# Altium schematic symbol library Analog Devices Amplifiers and Linear Voltage References.SchLib: 547 symbols (part 17 of 20)
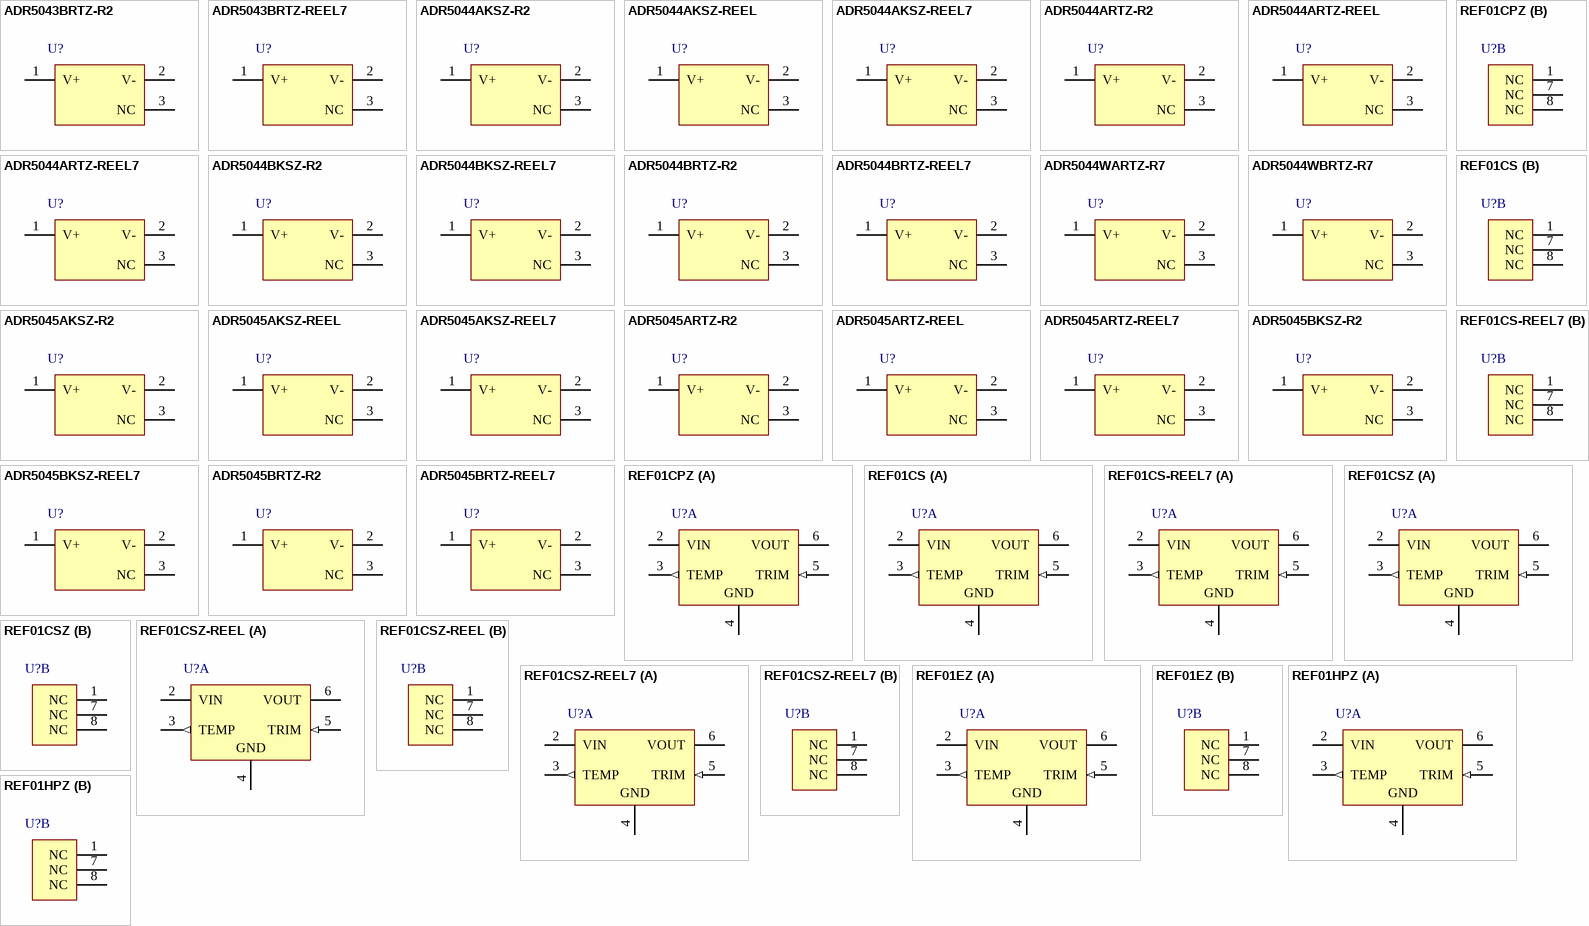
[diagram p36: symbols ADR5043BRTZ-R2 to REF01HPZ]

## ADR5045BKSZ-R2
designator U?
Precision Micropower Shunt Mode Voltage Reference, 5 V Output, Industrial, 3-pin SOT23 (KS-3), Reel; Manufacturer: Analog Devices; PartNumber: ADR5045BKSZ-R2; Ref Out TC (ppm/C): 10; Vout: 5V; DatasheetVersion: Rev. B; PackageVersion: 072809-A, 07/2009; PackageReference: KS-3; PackageDescription: 3-Pin Thin Shrink Small Outline Transistor Package, Body 2 x 1.25 mm, Pitch 0.65 mm; Supplier 1: Digi-Key; Supplier Part Number 1: ADR5045BKSZ-R2TR-ND; Supplier 2: Digi-Key; Supplier Part Number 2: ADR5045BKSZ-R2CT-ND; Supplier 3: Digi-Key; Supplier Part Number 3: ADR5045BKSZ-R2DKR-ND; Supplier 4: Newark; Supplier Part Number 4: 34M4914; Supplier 5: Mouser; Supplier Part Number 5: 584-ADR5045BKSZ-R2; Packing: Reel; Operating Temp Range: -40 to 125 degC; Mounting Technology: Surface Mount; ComponentLink1Description: Manufacturer URL; ComponentLink1URL: http://www.analog.com/en/index.html; ComponentLink2Description: Datasheet; ComponentLink2URL: http://www.analog.com/static/imported-files/data_sheets/ADR5040_5041_5043_5044_5045.pdf; ComponentLink3Description: Package Specification; ComponentLink3URL: http:/www.analog.com/static/imported-files/packages/PKG_PDF/SC70(KS)/KS_3.pdf; ComponentLink4Description: URL Link1; ComponentLink4URL: Product URL:http://www.analog.com/en/special-linear-functions/voltage-references/adr5045/products/product.html
footprint ADI-KS-3_N (SOT23, 3-Leads, Body 2x1.25mm, Pitch 0.65mm, IPC Medium Density)
footprint ADI-KS-3_L (SOT23, 3-Leads, Body 2x1.25mm, Pitch 0.65mm, IPC High Density)
footprint ADI-KS-3_M (SOT23, 3-Leads, Body 2x1.25mm, Pitch 0.65mm, IPC Low Density)
pins: 1 V+ (power), 2 V- (power), 3 NC

## ADR5045BKSZ-REEL7
designator U?
Precision Micropower Shunt Mode Voltage Reference, 5 V Output, Industrial, 3-pin SOT23 (KS-3), Reel; Manufacturer: Analog Devices; PartNumber: ADR5045BKSZ-REEL7; Ref Out TC (ppm/C): 10; Vout: 5V; DatasheetVersion: Rev. B; PackageVersion: 072809-A, 07/2009; PackageReference: KS-3; PackageDescription: 3-Pin Thin Shrink Small Outline Transistor Package, Body 2 x 1.25 mm, Pitch 0.65 mm; Supplier 1: Digi-Key; Supplier Part Number 1: ADR5045BKSZ-REEL7-ND; Supplier 2: Mouser; Supplier Part Number 2: 584-ADR5045BKSZ-R7; Packing: Reel; Operating Temp Range: -40 to 125 degC; Mounting Technology: Surface Mount; ComponentLink1Description: Manufacturer URL; ComponentLink1URL: http://www.analog.com/en/index.html; ComponentLink2Description: Datasheet; ComponentLink2URL: http://www.analog.com/static/imported-files/data_sheets/ADR5040_5041_5043_5044_5045.pdf; ComponentLink3Description: Package Specification; ComponentLink3URL: http:/www.analog.com/static/imported-files/packages/PKG_PDF/SC70(KS)/KS_3.pdf; ComponentLink4Description: URL Link1; ComponentLink4URL: Product URL:http://www.analog.com/en/special-linear-functions/voltage-references/adr5045/products/product.html
footprint ADI-KS-3_N (SOT23, 3-Leads, Body 2x1.25mm, Pitch 0.65mm, IPC Medium Density)
footprint ADI-KS-3_L (SOT23, 3-Leads, Body 2x1.25mm, Pitch 0.65mm, IPC High Density)
footprint ADI-KS-3_M (SOT23, 3-Leads, Body 2x1.25mm, Pitch 0.65mm, IPC Low Density)
pins: 1 V+ (power), 2 V- (power), 3 NC

## ADR5045BRTZ-R2
designator U?
Precision Micropower Shunt Mode Voltage Reference, 5 V Output, Industrial, 3-pin SOT23 (RT-3), Reel; Manufacturer: Analog Devices; PartNumber: ADR5045BRTZ-R2; Ref Out TC (ppm/C): 10; Vout: 5V; DatasheetVersion: Rev. B; PackageVersion: 011909-C, 02/2009; PackageReference: RT-3; PackageDescription: 3-Pin Small Outline Transistor Package, Body 2.9 x 1.3 mm, Pitch 0.96 mm; Supplier 1: Digi-Key; Supplier Part Number 1: ADR5045BRTZ-R2TR-ND; Supplier 2: Digi-Key; Supplier Part Number 2: ADR5045BRTZ-R2CT-ND; Supplier 3: Digi-Key; Supplier Part Number 3: ADR5045BRTZ-R2DKR-ND; Supplier 4: Mouser; Supplier Part Number 4: 584-ADR5045BRTZ-R2; Packing: Reel; Operating Temp Range: -40 to 125 degC; Mounting Technology: Surface Mount; Code_JEDEC: TO-236-AB; ComponentLink1Description: Manufacturer URL; ComponentLink1URL: http://www.analog.com/en/index.html; ComponentLink2Description: Datasheet; ComponentLink2URL: http://www.analog.com/static/imported-files/data_sheets/ADR5040_5041_5043_5044_5045.pdf; ComponentLink3Description: Package Specification; ComponentLink3URL: http:/www.analog.com/static/imported-files/packages/PKG_PDF/SOT-23-3 (RT)/RT_3.pdf; ComponentLink4Description: URL Link1; ComponentLink4URL: Product URL:http://www.analog.com/en/special-linear-functions/voltage-references/adr5045/products/product.html
footprint ADI-RT-3_N (SOT23, 3-Leads, Body 2.9x1.3mm, Pitch 0.96mm, IPC Medium Density)
footprint ADI-RT-3_L (SOT23, 3-Leads, Body 2.9x1.3mm, Pitch 0.96mm, IPC High Density)
footprint ADI-RT-3_M (SOT23, 3-Leads, Body 2.9x1.3mm, Pitch 0.96mm, IPC Low Density)
pins: 1 V+ (power), 2 V- (power), 3 NC

## ADR5045BRTZ-REEL7
designator U?
Precision Micropower Shunt Mode Voltage Reference, 5 V Output, Industrial, 3-pin SOT23 (RT-3), Reel; Manufacturer: Analog Devices; PartNumber: ADR5045BRTZ-REEL7; Ref Out TC (ppm/C): 10; Vout: 5V; DatasheetVersion: Rev. B; PackageVersion: 011909-C, 02/2009; PackageReference: RT-3; PackageDescription: 3-Pin Small Outline Transistor Package, Body 2.9 x 1.3 mm, Pitch 0.96 mm; Supplier 1: Digi-Key; Supplier Part Number 1: ADR5045BRTZ-REEL7-ND; Supplier 2: Mouser; Supplier Part Number 2: 584-ADR5045BRTZ-R7; Packing: Reel; Operating Temp Range: -40 to 125 degC; Mounting Technology: Surface Mount; Code_JEDEC: TO-236-AB; ComponentLink1Description: Manufacturer URL; ComponentLink1URL: http://www.analog.com/en/index.html; ComponentLink2Description: Datasheet; ComponentLink2URL: http://www.analog.com/static/imported-files/data_sheets/ADR5040_5041_5043_5044_5045.pdf; ComponentLink3Description: Package Specification; ComponentLink3URL: http:/www.analog.com/static/imported-files/packages/PKG_PDF/SOT-23-3 (RT)/RT_3.pdf; ComponentLink4Description: URL Link1; ComponentLink4URL: Product URL:http://www.analog.com/en/special-linear-functions/voltage-references/adr5045/products/product.html
footprint ADI-RT-3_N (SOT23, 3-Leads, Body 2.9x1.3mm, Pitch 0.96mm, IPC Medium Density)
footprint ADI-RT-3_L (SOT23, 3-Leads, Body 2.9x1.3mm, Pitch 0.96mm, IPC High Density)
footprint ADI-RT-3_M (SOT23, 3-Leads, Body 2.9x1.3mm, Pitch 0.96mm, IPC Low Density)
pins: 1 V+ (power), 2 V- (power), 3 NC

## REF01CPZ
designator U?
Precision Voltage Reference, 10 V Output, 12 to 36 V Supply, Commercial, 8-pin DIP (N-8), Tube; Manufacturer: Analog Devices; PartNumber: REF01CPZ; Max V Supply (V): 36; Min V Supply (V): 12; Ref Out TC (ppm/C): 20; Vout: 10V; DatasheetVersion: Rev. K; PackageVersion: 070606-A, 07/2006; PackageReference: N-8; PackageDescription: 8-Pin Plastic Dual In-Line Package, Row spacing 7.62 mm, Pitch 2.54 mm; Supplier 1: Digi-Key; Supplier Part Number 1: REF01CPZ-ND; Supplier 2: Farnell; Supplier Part Number 2: 9605134; Supplier 3: Newark; Supplier Part Number 3: 59K9004; Supplier 4: Mouser; Supplier Part Number 4: 584-REF01CPZ; Packing: Tube; Operating Temp Range: -40 to 85 degC; Mounting Technology: Through Hole; Code_JEDEC: MS-001; ComponentLink1Description: Manufacturer URL; ComponentLink1URL: http://www.analog.com/en/index.html; ComponentLink2Description: Datasheet; ComponentLink2URL: http://www.analog.com/static/imported-files/data_sheets/REF01_02_03.pdf; ComponentLink3Description: Package Specification; ComponentLink3URL: http:/www.analog.com/static/imported-files/packages/PKG_PDF/PDIP(N)/N_8.pdf; ComponentLink4Description: URL Link1; ComponentLink4URL: Product URL:http://www.analog.com/en/special-linear-functions/voltage-references/ref01/products/product.html
footprint ADI-N-8 (DIP, 8-Leads, Body 9.59x6.6mm, Pitch 2.54mm)
part A pins: 2 VIN (power), 3 TEMP (out), 4 GND (power), 5 TRIM (in), 6 VOUT (power)
part B pins: 1 NC, 7 NC, 8 NC

## REF01CS
designator U?
Precision Voltage Reference, 10 V Output, 12 to 36 V Supply, Commercial, 8-pin SOIC (R-8), Tube; Manufacturer: Analog Devices; PartNumber: REF01CS; Max V Supply (V): 36; Min V Supply (V): 12; Ref Out TC (ppm/C): 20; Vout: 10V; DatasheetVersion: Rev. K; PackageVersion: 060506-A, 06/2006; PackageReference: R-8; PackageDescription: 8-Pin Standard Small Outline Package, Body 4.9 x 3.9 mm, Pitch 1.27 mm; Supplier 1: Digi-Key; Supplier Part Number 1: REF01CS-ND; Packing: Tube; Operating Temp Range: -40 to 85 degC; Mounting Technology: Surface Mount; Code_JEDEC: MS-012-AA; ComponentLink1Description: Manufacturer URL; ComponentLink1URL: http://www.analog.com/en/index.html; ComponentLink2Description: Datasheet; ComponentLink2URL: http://www.analog.com/static/imported-files/data_sheets/REF01_02_03.pdf; ComponentLink3Description: Package Specification; ComponentLink3URL: http://www.analog.com/static/imported-files/packages/PKG_PDF/SOIC_Narrow%20(R)/R_8.pdf; ComponentLink4Description: URL Link1; ComponentLink4URL: Product URL:http://www.analog.com/en/special-linear-functions/voltage-references/ref01/products/product.html
footprint ADI-R-8_N (SOIC, 8-Leads, Body 4.9x3.9mm, Pitch 1.27mm, IPC Medium Density)
footprint ADI-R-8_L (SOIC, 8-Leads, Body 4.9x3.9mm, Pitch 1.27mm, IPC High Density)
footprint ADI-R-8_M (SOIC, 8-Leads, Body 4.9x3.9mm, Pitch 1.27mm, IPC Low Density)
part A pins: 2 VIN (power), 3 TEMP (out), 4 GND (power), 5 TRIM (in), 6 VOUT (power)
part B pins: 1 NC, 7 NC, 8 NC

## REF01CS-REEL7
designator U?
Precision Voltage Reference, 10 V Output, 12 to 36 V Supply, Commercial, 8-pin SOIC (R-8), Reel; Manufacturer: Analog Devices; PartNumber: REF01CS-REEL7; Max V Supply (V): 36; Min V Supply (V): 12; Ref Out TC (ppm/C): 20; Vout: 10V; DatasheetVersion: Rev. K; PackageVersion: 060506-A, 06/2006; PackageReference: R-8; PackageDescription: 8-Pin Standard Small Outline Package, Body 4.9 x 3.9 mm, Pitch 1.27 mm; Supplier 1: Digi-Key; Supplier Part Number 1: REF01CS-REEL7-ND; Supplier 2: Mouser; Supplier Part Number 2: N/A; Packing: Reel; Operating Temp Range: -40 to 85 degC; Mounting Technology: Surface Mount; Code_JEDEC: MS-012-AA; ComponentLink1Description: Manufacturer URL; ComponentLink1URL: http://www.analog.com/en/index.html; ComponentLink2Description: Datasheet; ComponentLink2URL: http://www.analog.com/static/imported-files/data_sheets/REF01_02_03.pdf; ComponentLink3Description: Package Specification; ComponentLink3URL: http://www.analog.com/static/imported-files/packages/PKG_PDF/SOIC_Narrow%20(R)/R_8.pdf; ComponentLink4Description: URL Link1; ComponentLink4URL: Product URL:http://www.analog.com/en/special-linear-functions/voltage-references/ref01/products/product.html
footprint ADI-R-8_N (SOIC, 8-Leads, Body 4.9x3.9mm, Pitch 1.27mm, IPC Medium Density)
footprint ADI-R-8_L (SOIC, 8-Leads, Body 4.9x3.9mm, Pitch 1.27mm, IPC High Density)
footprint ADI-R-8_M (SOIC, 8-Leads, Body 4.9x3.9mm, Pitch 1.27mm, IPC Low Density)
part A pins: 2 VIN (power), 3 TEMP (out), 4 GND (power), 5 TRIM (in), 6 VOUT (power)
part B pins: 1 NC, 7 NC, 8 NC

## REF01CSZ
designator U?
Precision Voltage Reference, 10 V Output, 12 to 36 V Supply, Commercial, 8-pin SOIC (R-8), Tube; Manufacturer: Analog Devices; PartNumber: REF01CSZ; Max V Supply (V): 36; Min V Supply (V): 12; Ref Out TC (ppm/C): 20; Vout: 10V; DatasheetVersion: Rev. K; PackageVersion: 060506-A, 06/2006; PackageReference: R-8; PackageDescription: 8-Pin Standard Small Outline Package, Body 4.9 x 3.9 mm, Pitch 1.27 mm; Supplier 1: Digi-Key; Supplier Part Number 1: REF01CSZ-ND; Supplier 2: Farnell; Supplier Part Number 2: 9605142; Supplier 3: Newark; Supplier Part Number 3: 59K9005; Supplier 4: Mouser; Supplier Part Number 4: 584-REF01CSZ; Packing: Tube; Operating Temp Range: -40 to 85 degC; Mounting Technology: Surface Mount; Code_JEDEC: MS-012-AA; ComponentLink1Description: Manufacturer URL; ComponentLink1URL: http://www.analog.com/en/index.html; ComponentLink2Description: Datasheet; ComponentLink2URL: http://www.analog.com/static/imported-files/data_sheets/REF01_02_03.pdf; ComponentLink3Description: Package Specification; ComponentLink3URL: http://www.analog.com/static/imported-files/packages/PKG_PDF/SOIC_Narrow%20(R)/R_8.pdf; ComponentLink4Description: URL Link1; ComponentLink4URL: Product URL:http://www.analog.com/en/special-linear-functions/voltage-references/ref01/products/product.html
footprint ADI-R-8_N (SOIC, 8-Leads, Body 4.9x3.9mm, Pitch 1.27mm, IPC Medium Density)
footprint ADI-R-8_L (SOIC, 8-Leads, Body 4.9x3.9mm, Pitch 1.27mm, IPC High Density)
footprint ADI-R-8_M (SOIC, 8-Leads, Body 4.9x3.9mm, Pitch 1.27mm, IPC Low Density)
part A pins: 2 VIN (power), 3 TEMP (out), 4 GND (power), 5 TRIM (in), 6 VOUT (power)
part B pins: 1 NC, 7 NC, 8 NC

## REF01CSZ-REEL
designator U?
Precision Voltage Reference, 10 V Output, 12 to 36 V Supply, Commercial, 8-pin SOIC (R-8), Reel; Manufacturer: Analog Devices; PartNumber: REF01CSZ-REEL; Max V Supply (V): 36; Min V Supply (V): 12; Ref Out TC (ppm/C): 20; Vout: 10V; DatasheetVersion: Rev. K; PackageVersion: 060506-A, 06/2006; PackageReference: R-8; PackageDescription: 8-Pin Standard Small Outline Package, Body 4.9 x 3.9 mm, Pitch 1.27 mm; Supplier 1: Digi-Key; Supplier Part Number 1: REF01CSZ-REEL-ND; Supplier 2: Newark; Supplier Part Number 2: 59K9006; Supplier 3: Mouser; Supplier Part Number 3: 584-REF01CSZ-R; Packing: Reel; Operating Temp Range: -40 to 85 degC; Mounting Technology: Surface Mount; Code_JEDEC: MS-012-AA; ComponentLink1Description: Manufacturer URL; ComponentLink1URL: http://www.analog.com/en/index.html; ComponentLink2Description: Datasheet; ComponentLink2URL: http://www.analog.com/static/imported-files/data_sheets/REF01_02_03.pdf; ComponentLink3Description: Package Specification; ComponentLink3URL: http://www.analog.com/static/imported-files/packages/PKG_PDF/SOIC_Narrow%20(R)/R_8.pdf; ComponentLink4Description: URL Link1; ComponentLink4URL: Product URL:http://www.analog.com/en/special-linear-functions/voltage-references/ref01/products/product.html
footprint ADI-R-8_N (SOIC, 8-Leads, Body 4.9x3.9mm, Pitch 1.27mm, IPC Medium Density)
footprint ADI-R-8_L (SOIC, 8-Leads, Body 4.9x3.9mm, Pitch 1.27mm, IPC High Density)
footprint ADI-R-8_M (SOIC, 8-Leads, Body 4.9x3.9mm, Pitch 1.27mm, IPC Low Density)
part A pins: 2 VIN (power), 3 TEMP (out), 4 GND (power), 5 TRIM (in), 6 VOUT (power)
part B pins: 1 NC, 7 NC, 8 NC

## REF01CSZ-REEL7
designator U?
Precision Voltage Reference, 10 V Output, 12 to 36 V Supply, Commercial, 8-pin SOIC (R-8), Reel; Manufacturer: Analog Devices; PartNumber: REF01CSZ-REEL7; Max V Supply (V): 36; Min V Supply (V): 12; Ref Out TC (ppm/C): 20; Vout: 10V; DatasheetVersion: Rev. K; PackageVersion: 060506-A, 06/2006; PackageReference: R-8; PackageDescription: 8-Pin Standard Small Outline Package, Body 4.9 x 3.9 mm, Pitch 1.27 mm; Supplier 1: Digi-Key; Supplier Part Number 1: REF01CSZ-REEL7-ND; Supplier 2: Newark; Supplier Part Number 2: 59K9007; Supplier 3: Mouser; Supplier Part Number 3: 584-REF01CSZ-R7; Packing: Reel; Operating Temp Range: -40 to 85 degC; Mounting Technology: Surface Mount; Code_JEDEC: MS-012-AA; ComponentLink1Description: Manufacturer URL; ComponentLink1URL: http://www.analog.com/en/index.html; ComponentLink2Description: Datasheet; ComponentLink2URL: http://www.analog.com/static/imported-files/data_sheets/REF01_02_03.pdf; ComponentLink3Description: Package Specification; ComponentLink3URL: http://www.analog.com/static/imported-files/packages/PKG_PDF/SOIC_Narrow%20(R)/R_8.pdf; ComponentLink4Description: URL Link1; ComponentLink4URL: Product URL:http://www.analog.com/en/special-linear-functions/voltage-references/ref01/products/product.html
footprint ADI-R-8_N (SOIC, 8-Leads, Body 4.9x3.9mm, Pitch 1.27mm, IPC Medium Density)
footprint ADI-R-8_L (SOIC, 8-Leads, Body 4.9x3.9mm, Pitch 1.27mm, IPC High Density)
footprint ADI-R-8_M (SOIC, 8-Leads, Body 4.9x3.9mm, Pitch 1.27mm, IPC Low Density)
part A pins: 2 VIN (power), 3 TEMP (out), 4 GND (power), 5 TRIM (in), 6 VOUT (power)
part B pins: 1 NC, 7 NC, 8 NC

## REF01EZ
designator U?
Precision Voltage Reference, 10 V Output, 12 to 36 V Supply, Industrial, 8-pin DIP (Q-8), Tube; Manufacturer: Analog Devices; PartNumber: REF01EZ; Max V Supply (V): 36; Min V Supply (V): 12; Vout: 10V; DatasheetVersion: Rev. K; PackageVersion: Aug-05; PackageReference: Q-8; PackageDescription: 8-Pin Ceramic Dual In-Line Package, Row spacing 7.62 mm, Pitch 2.54 mm; Supplier 1: Digi-Key; Supplier Part Number 1: REF01EZ-ND; Supplier 2: Farnell; Supplier Part Number 2: 2243350; Supplier 3: Newark; Supplier Part Number 3: 05F8979; Supplier 4: Mouser; Supplier Part Number 4: 584-REF01EZ; Packing: Tube; Operating Temp Range: -40 to 85 degC; Mounting Technology: Through Hole; ComponentLink1Description: Manufacturer URL; ComponentLink1URL: http://www.analog.com/en/index.html; ComponentLink2Description: Datasheet; ComponentLink2URL: http://www.analog.com/static/imported-files/data_sheets/REF01_02_03.pdf; ComponentLink3Description: Package Specification; ComponentLink3URL: http://www.analog.com/static/imported-files/packages/3925655241313314758Q_8.pdf; ComponentLink4Description: URL Link1; ComponentLink4URL: Product URL:http://www.analog.com/en/special-linear-functions/voltage-references/ref01/products/product.html
footprint ADI-Q-8 (DIP, 8-Leads, Body 10.29x6.73mm, Pitch 2.54mm)
part A pins: 2 VIN (power), 3 TEMP (out), 4 GND (power), 5 TRIM (in), 6 VOUT (power)
part B pins: 1 NC, 7 NC, 8 NC

## REF01HPZ
designator U?
Precision Voltage Reference, 10 V Output, 12 to 36 V Supply, Industrial, 8-pin DIP (N-8), Tube; Manufacturer: Analog Devices; PartNumber: REF01HPZ; Max V Supply (V): 36; Min V Supply (V): 12; Vout: 10V; DatasheetVersion: Rev. K; PackageVersion: 070606-A, 07/2006; PackageReference: N-8; PackageDescription: 8-Pin Plastic Dual In-Line Package, Row spacing 7.62 mm, Pitch 2.54 mm; Supplier 1: Digi-Key; Supplier Part Number 1: REF01HPZ-ND; Supplier 2: Farnell; Supplier Part Number 2: 9605150; Supplier 3: Newark; Supplier Part Number 3: 59K9008; Supplier 4: Mouser; Supplier Part Number 4: 584-REF01HPZ; Packing: Tube; Operating Temp Range: -40 to 85 degC; Mounting Technology: Through Hole; Code_JEDEC: MS-001; ComponentLink1Description: Manufacturer URL; ComponentLink1URL: http://www.analog.com/en/index.html; ComponentLink2Description: Datasheet; ComponentLink2URL: http://www.analog.com/static/imported-files/data_sheets/REF01_02_03.pdf; ComponentLink3Description: Package Specification; ComponentLink3URL: http:/www.analog.com/static/imported-files/packages/PKG_PDF/PDIP(N)/N_8.pdf; ComponentLink4Description: URL Link1; ComponentLink4URL: Product URL:http://www.analog.com/en/special-linear-functions/voltage-references/ref01/products/product.html
footprint ADI-N-8 (DIP, 8-Leads, Body 9.59x6.6mm, Pitch 2.54mm)
part A pins: 2 VIN (power), 3 TEMP (out), 4 GND (power), 5 TRIM (in), 6 VOUT (power)
part B pins: 1 NC, 7 NC, 8 NC

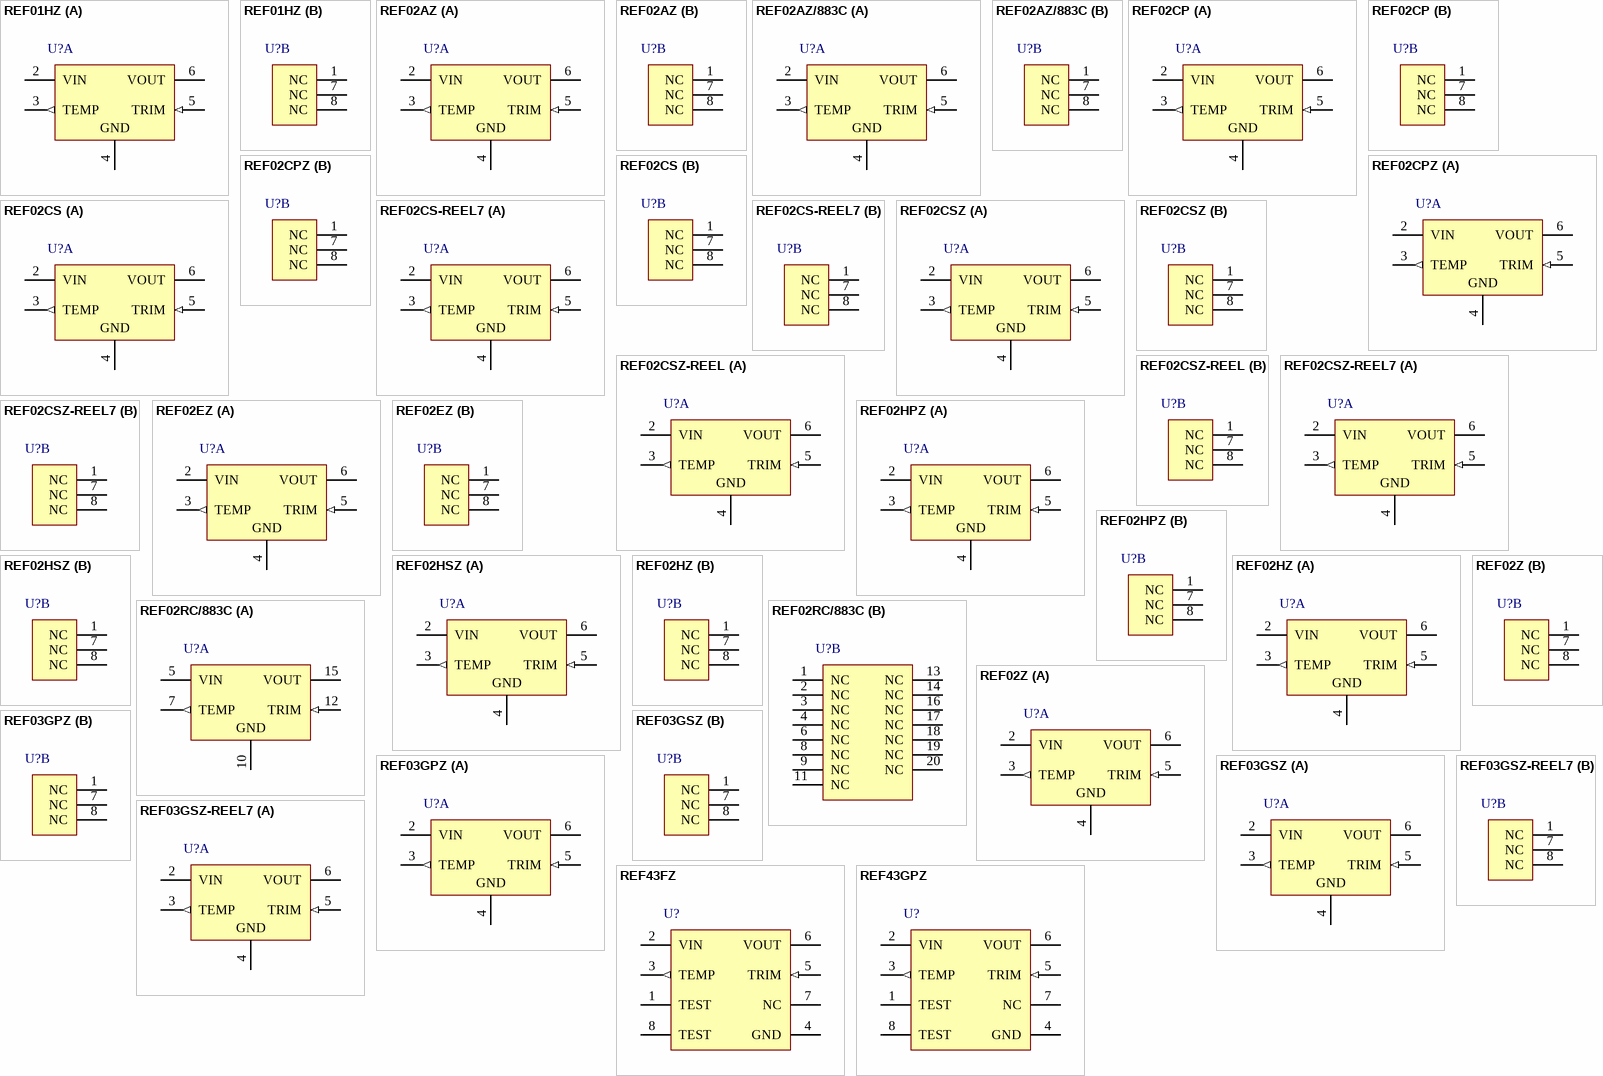
[diagram p18: symbols REF01HZ to REF43GPZ]

## REF01HZ
designator U?
Precision Voltage Reference, 10 V Output, 12 to 36 V Supply, Industrial, 8-pin DIP (Q-8), Tube; Manufacturer: Analog Devices; PartNumber: REF01HZ; Max V Supply (V): 36; Min V Supply (V): 12; Vout: 10V; DatasheetVersion: Rev. K; PackageVersion: Aug-05; PackageReference: Q-8; PackageDescription: 8-Pin Ceramic Dual In-Line Package, Row spacing 7.62 mm, Pitch 2.54 mm; Supplier 1: Digi-Key; Supplier Part Number 1: REF01HZ-ND; Supplier 2: Newark; Supplier Part Number 2: 05F8982; Supplier 3: Mouser; Supplier Part Number 3: 584-REF01HZ; Packing: Tube; Operating Temp Range: -40 to 85 degC; Mounting Technology: Through Hole; ComponentLink1Description: Manufacturer URL; ComponentLink1URL: http://www.analog.com/en/index.html; ComponentLink2Description: Datasheet; ComponentLink2URL: http://www.analog.com/static/imported-files/data_sheets/REF01_02_03.pdf; ComponentLink3Description: Package Specification; ComponentLink3URL: http://www.analog.com/static/imported-files/packages/3925655241313314758Q_8.pdf; ComponentLink4Description: URL Link1; ComponentLink4URL: Product URL:http://www.analog.com/en/special-linear-functions/voltage-references/ref01/products/product.html
footprint ADI-Q-8 (DIP, 8-Leads, Body 10.29x6.73mm, Pitch 2.54mm)
part A pins: 2 VIN (power), 3 TEMP (out), 4 GND (power), 5 TRIM (in), 6 VOUT (power)
part B pins: 1 NC, 7 NC, 8 NC

## REF02AZ
designator U?
Precision Voltage Reference, 5 V Output, 7 to 36 V Supply, Military, 8-pin DIP (Q-8), Tube; Manufacturer: Analog Devices; PartNumber: REF02AZ; Max V Supply (V): 36; Min V Supply (V): 7; Ref Out TC (ppm/C): 3; Vout: 5V; DatasheetVersion: Rev. K; PackageVersion: Aug-05; PackageReference: Q-8; PackageDescription: 8-Pin Ceramic Dual In-Line Package, Row spacing 7.62 mm, Pitch 2.54 mm; Supplier 1: Digi-Key; Supplier Part Number 1: REF02AZ-ND; Supplier 2: Mouser; Supplier Part Number 2: 584-REF02AZ; Packing: Tube; Operating Temp Range: -55 to 125 degC; Mounting Technology: Through Hole; ComponentLink1Description: Manufacturer URL; ComponentLink1URL: http://www.analog.com/en/index.html; ComponentLink2Description: Datasheet; ComponentLink2URL: http://www.analog.com/static/imported-files/data_sheets/REF01_02_03.pdf; ComponentLink3Description: Package Specification; ComponentLink3URL: http://www.analog.com/static/imported-files/packages/3925655241313314758Q_8.pdf; ComponentLink4Description: URL Link1; ComponentLink4URL: Product URL:http://www.analog.com/en/special-linear-functions/voltage-references/ref02/products/product.html
footprint ADI-Q-8 (DIP, 8-Leads, Body 10.29x6.73mm, Pitch 2.54mm)
part A pins: 2 VIN (power), 3 TEMP (out), 4 GND (power), 5 TRIM (in), 6 VOUT (power)
part B pins: 1 NC, 7 NC, 8 NC

## REF02AZ/883C
designator U?
Precision Voltage Reference, 5 V Output, 7 to 36 V Supply, Military, 8-pin DIP (Q-8), Tube; Manufacturer: Analog Devices; PartNumber: REF02AZ/883C; Max V Supply (V): 36; Min V Supply (V): 7; Ref Out TC (ppm/C): 3; Vout: 5V; DatasheetVersion: Rev. K; PackageVersion: Aug-05; PackageReference: Q-8; PackageDescription: 8-Pin Ceramic Dual In-Line Package, Row spacing 7.62 mm, Pitch 2.54 mm; Supplier 1: Mouser; Supplier Part Number 1: 584-REF02AZ883C; Packing: Tube; Operating Temp Range: -55 to 125 degC; Mounting Technology: Through Hole; ComponentLink1Description: Manufacturer URL; ComponentLink1URL: http://www.analog.com/en/index.html; ComponentLink2Description: Datasheet; ComponentLink2URL: http://www.analog.com/static/imported-files/data_sheets/REF01_02_03.pdf; ComponentLink3Description: Package Specification; ComponentLink3URL: http://www.analog.com/static/imported-files/packages/3925655241313314758Q_8.pdf; ComponentLink4Description: URL Link1; ComponentLink4URL: Product URL:http://www.analog.com/en/special-linear-functions/voltage-references/ref02/products/product.html
footprint ADI-Q-8 (DIP, 8-Leads, Body 10.29x6.73mm, Pitch 2.54mm)
part A pins: 2 VIN (power), 3 TEMP (out), 4 GND (power), 5 TRIM (in), 6 VOUT (power)
part B pins: 1 NC, 7 NC, 8 NC

## REF02CP
designator U?
Precision Voltage Reference, 5 V Output, 7 to 36 V Supply, Industrial, 8-pin DIP (N-8), Tube; Manufacturer: Analog Devices; PartNumber: REF02CP; Max V Supply (V): 36; Min V Supply (V): 7; Ref Out TC (ppm/C): 20; Vout: 5V; DatasheetVersion: Rev. K; PackageVersion: 070606-A, 07/2006; PackageReference: N-8; PackageDescription: 8-Pin Plastic Dual In-Line Package, Row spacing 7.62 mm, Pitch 2.54 mm; Supplier 1: Digi-Key; Supplier Part Number 1: REF02CP-ND; Packing: Tube; Operating Temp Range: -40 to 85 degC; Mounting Technology: Through Hole; Code_JEDEC: MS-001; ComponentLink1Description: Manufacturer URL; ComponentLink1URL: http://www.analog.com/en/index.html; ComponentLink2Description: Datasheet; ComponentLink2URL: http://www.analog.com/static/imported-files/data_sheets/REF01_02_03.pdf; ComponentLink3Description: Package Specification; ComponentLink3URL: http:/www.analog.com/static/imported-files/packages/PKG_PDF/PDIP(N)/N_8.pdf; ComponentLink4Description: URL Link1; ComponentLink4URL: Product URL:http://www.analog.com/en/special-linear-functions/voltage-references/ref02/products/product.html
footprint ADI-N-8 (DIP, 8-Leads, Body 9.59x6.6mm, Pitch 2.54mm)
part A pins: 2 VIN (power), 3 TEMP (out), 4 GND (power), 5 TRIM (in), 6 VOUT (power)
part B pins: 1 NC, 7 NC, 8 NC

## REF02CPZ
designator U?
Precision Voltage Reference, 5 V Output, 7 to 36 V Supply, Industrial, 8-pin DIP (N-8), Tube; Manufacturer: Analog Devices; PartNumber: REF02CPZ; Max V Supply (V): 36; Min V Supply (V): 7; Ref Out TC (ppm/C): 20; Vout: 5V; DatasheetVersion: Rev. K; PackageVersion: 070606-A, 07/2006; PackageReference: N-8; PackageDescription: 8-Pin Plastic Dual In-Line Package, Row spacing 7.62 mm, Pitch 2.54 mm; Supplier 1: Digi-Key; Supplier Part Number 1: REF02CPZ-ND; Supplier 2: Farnell; Supplier Part Number 2: 1079390; Supplier 3: Newark; Supplier Part Number 3: 59K9011; Supplier 4: Mouser; Supplier Part Number 4: 584-REF02CPZ; Packing: Tube; Operating Temp Range: -40 to 85 degC; Mounting Technology: Through Hole; Code_JEDEC: MS-001; ComponentLink1Description: Manufacturer URL; ComponentLink1URL: http://www.analog.com/en/index.html; ComponentLink2Description: Datasheet; ComponentLink2URL: http://www.analog.com/static/imported-files/data_sheets/REF01_02_03.pdf; ComponentLink3Description: Package Specification; ComponentLink3URL: http:/www.analog.com/static/imported-files/packages/PKG_PDF/PDIP(N)/N_8.pdf; ComponentLink4Description: URL Link1; ComponentLink4URL: Product URL:http://www.analog.com/en/special-linear-functions/voltage-references/ref02/products/product.html
footprint ADI-N-8 (DIP, 8-Leads, Body 9.59x6.6mm, Pitch 2.54mm)
part A pins: 2 VIN (power), 3 TEMP (out), 4 GND (power), 5 TRIM (in), 6 VOUT (power)
part B pins: 1 NC, 7 NC, 8 NC

## REF02CS
designator U?
Precision Voltage Reference, 5 V Output, 7 to 36 V Supply, Industrial, 8-pin SOIC (R-8), Tube; Manufacturer: Analog Devices; PartNumber: REF02CS; Max V Supply (V): 36; Min V Supply (V): 7; Ref Out TC (ppm/C): 20; Vout: 5V; DatasheetVersion: Rev. K; PackageVersion: 060506-A, 06/2006; PackageReference: R-8; PackageDescription: 8-Pin Standard Small Outline Package, Body 4.9 x 3.9 mm, Pitch 1.27 mm; Supplier 1: Digi-Key; Supplier Part Number 1: REF02CS-ND; Packing: Tube; Operating Temp Range: -40 to 85 degC; Mounting Technology: Surface Mount; Code_JEDEC: MS-012-AA; ComponentLink1Description: Manufacturer URL; ComponentLink1URL: http://www.analog.com/en/index.html; ComponentLink2Description: Datasheet; ComponentLink2URL: http://www.analog.com/static/imported-files/data_sheets/REF01_02_03.pdf; ComponentLink3Description: Package Specification; ComponentLink3URL: http://www.analog.com/static/imported-files/packages/PKG_PDF/SOIC_Narrow%20(R)/R_8.pdf; ComponentLink4Description: URL Link1; ComponentLink4URL: Product URL:http://www.analog.com/en/special-linear-functions/voltage-references/ref02/products/product.html
footprint ADI-R-8_N (SOIC, 8-Leads, Body 4.9x3.9mm, Pitch 1.27mm, IPC Medium Density)
footprint ADI-R-8_L (SOIC, 8-Leads, Body 4.9x3.9mm, Pitch 1.27mm, IPC High Density)
footprint ADI-R-8_M (SOIC, 8-Leads, Body 4.9x3.9mm, Pitch 1.27mm, IPC Low Density)
part A pins: 2 VIN (power), 3 TEMP (out), 4 GND (power), 5 TRIM (in), 6 VOUT (power)
part B pins: 1 NC, 7 NC, 8 NC

## REF02CS-REEL7
designator U?
Precision Voltage Reference, 5 V Output, 7 to 36 V Supply, Industrial, 8-pin SOIC (R-8), Reel; Manufacturer: Analog Devices; PartNumber: REF02CS-REEL7; Max V Supply (V): 36; Min V Supply (V): 7; Ref Out TC (ppm/C): 20; Vout: 5V; DatasheetVersion: Rev. K; PackageVersion: 060506-A, 06/2006; PackageReference: R-8; PackageDescription: 8-Pin Standard Small Outline Package, Body 4.9 x 3.9 mm, Pitch 1.27 mm; Supplier 1: Digi-Key; Supplier Part Number 1: REF02CS-REEL7TR-ND; Supplier 2: Digi-Key; Supplier Part Number 2: REF02CS-REEL7CT-ND; Supplier 3: Digi-Key; Supplier Part Number 3: REF02CS-REEL7DKR-ND; Packing: Reel; Operating Temp Range: -40 to 85 degC; Mounting Technology: Surface Mount; Code_JEDEC: MS-012-AA; ComponentLink1Description: Manufacturer URL; ComponentLink1URL: http://www.analog.com/en/index.html; ComponentLink2Description: Datasheet; ComponentLink2URL: http://www.analog.com/static/imported-files/data_sheets/REF01_02_03.pdf; ComponentLink3Description: Package Specification; ComponentLink3URL: http://www.analog.com/static/imported-files/packages/PKG_PDF/SOIC_Narrow%20(R)/R_8.pdf; ComponentLink4Description: URL Link1; ComponentLink4URL: Product URL:http://www.analog.com/en/special-linear-functions/voltage-references/ref02/products/product.html
footprint ADI-R-8_N (SOIC, 8-Leads, Body 4.9x3.9mm, Pitch 1.27mm, IPC Medium Density)
footprint ADI-R-8_L (SOIC, 8-Leads, Body 4.9x3.9mm, Pitch 1.27mm, IPC High Density)
footprint ADI-R-8_M (SOIC, 8-Leads, Body 4.9x3.9mm, Pitch 1.27mm, IPC Low Density)
part A pins: 2 VIN (power), 3 TEMP (out), 4 GND (power), 5 TRIM (in), 6 VOUT (power)
part B pins: 1 NC, 7 NC, 8 NC

## REF02CSZ
designator U?
Precision Voltage Reference, 5 V Output, 7 to 36 V Supply, Industrial, 8-pin SOIC (R-8), Tube; Manufacturer: Analog Devices; PartNumber: REF02CSZ; Max V Supply (V): 36; Min V Supply (V): 7; Ref Out TC (ppm/C): 20; Vout: 5V; DatasheetVersion: Rev. K; PackageVersion: 060506-A, 06/2006; PackageReference: R-8; PackageDescription: 8-Pin Standard Small Outline Package, Body 4.9 x 3.9 mm, Pitch 1.27 mm; Supplier 1: Digi-Key; Supplier Part Number 1: REF02CSZ-ND; Supplier 2: Farnell; Supplier Part Number 2: 9426159; Supplier 3: Newark; Supplier Part Number 3: 59K9012; Supplier 4: Mouser; Supplier Part Number 4: 584-REF02CSZ; Packing: Tube; Operating Temp Range: -40 to 85 degC; Mounting Technology: Surface Mount; Code_JEDEC: MS-012-AA; ComponentLink1Description: Manufacturer URL; ComponentLink1URL: http://www.analog.com/en/index.html; ComponentLink2Description: Datasheet; ComponentLink2URL: http://www.analog.com/static/imported-files/data_sheets/REF01_02_03.pdf; ComponentLink3Description: Package Specification; ComponentLink3URL: http://www.analog.com/static/imported-files/packages/PKG_PDF/SOIC_Narrow%20(R)/R_8.pdf; ComponentLink4Description: URL Link1; ComponentLink4URL: Product URL:http://www.analog.com/en/special-linear-functions/voltage-references/ref02/products/product.html
footprint ADI-R-8_N (SOIC, 8-Leads, Body 4.9x3.9mm, Pitch 1.27mm, IPC Medium Density)
footprint ADI-R-8_L (SOIC, 8-Leads, Body 4.9x3.9mm, Pitch 1.27mm, IPC High Density)
footprint ADI-R-8_M (SOIC, 8-Leads, Body 4.9x3.9mm, Pitch 1.27mm, IPC Low Density)
part A pins: 2 VIN (power), 3 TEMP (out), 4 GND (power), 5 TRIM (in), 6 VOUT (power)
part B pins: 1 NC, 7 NC, 8 NC

## REF02CSZ-REEL
designator U?
Precision Voltage Reference, 5 V Output, 7 to 36 V Supply, Industrial, 8-pin SOIC (R-8), Reel; Manufacturer: Analog Devices; PartNumber: REF02CSZ-REEL; Max V Supply (V): 36; Min V Supply (V): 7; Ref Out TC (ppm/C): 20; Vout: 5V; DatasheetVersion: Rev. K; PackageVersion: 060506-A, 06/2006; PackageReference: R-8; PackageDescription: 8-Pin Standard Small Outline Package, Body 4.9 x 3.9 mm, Pitch 1.27 mm; Supplier 1: Digi-Key; Supplier Part Number 1: REF02CSZ-REELTR-ND; Supplier 2: Digi-Key; Supplier Part Number 2: REF02CSZ-REELCT-ND; Supplier 3: Digi-Key; Supplier Part Number 3: REF02CSZ-REELDKR-ND; Supplier 4: Newark; Supplier Part Number 4: 59K9013; Supplier 5: Mouser; Supplier Part Number 5: 584-REF02CSZ-R; Packing: Reel; Operating Temp Range: -40 to 85 degC; Mounting Technology: Surface Mount; Code_JEDEC: MS-012-AA; ComponentLink1Description: Manufacturer URL; ComponentLink1URL: http://www.analog.com/en/index.html; ComponentLink2Description: Datasheet; ComponentLink2URL: http://www.analog.com/static/imported-files/data_sheets/REF01_02_03.pdf; ComponentLink3Description: Package Specification; ComponentLink3URL: http://www.analog.com/static/imported-files/packages/PKG_PDF/SOIC_Narrow%20(R)/R_8.pdf; ComponentLink4Description: URL Link1; ComponentLink4URL: Product URL:http://www.analog.com/en/special-linear-functions/voltage-references/ref02/products/product.html
footprint ADI-R-8_N (SOIC, 8-Leads, Body 4.9x3.9mm, Pitch 1.27mm, IPC Medium Density)
footprint ADI-R-8_L (SOIC, 8-Leads, Body 4.9x3.9mm, Pitch 1.27mm, IPC High Density)
footprint ADI-R-8_M (SOIC, 8-Leads, Body 4.9x3.9mm, Pitch 1.27mm, IPC Low Density)
part A pins: 2 VIN (power), 3 TEMP (out), 4 GND (power), 5 TRIM (in), 6 VOUT (power)
part B pins: 1 NC, 7 NC, 8 NC

## REF02CSZ-REEL7
designator U?
Precision Voltage Reference, 5 V Output, 7 to 36 V Supply, Industrial, 8-pin SOIC (R-8), Reel; Manufacturer: Analog Devices; PartNumber: REF02CSZ-REEL7; Max V Supply (V): 36; Min V Supply (V): 7; Ref Out TC (ppm/C): 20; Vout: 5V; DatasheetVersion: Rev. K; PackageVersion: 060506-A, 06/2006; PackageReference: R-8; PackageDescription: 8-Pin Standard Small Outline Package, Body 4.9 x 3.9 mm, Pitch 1.27 mm; Supplier 1: Digi-Key; Supplier Part Number 1: REF02CSZ-REEL7TR-ND; Supplier 2: Digi-Key; Supplier Part Number 2: REF02CSZ-REEL7CT-ND; Supplier 3: Digi-Key; Supplier Part Number 3: REF02CSZ-REEL7DKR-ND; Supplier 4: Newark; Supplier Part Number 4: 59K9014; Supplier 5: Mouser; Supplier Part Number 5: 584-REF02CSZ-R7; Packing: Reel; Operating Temp Range: -40 to 85 degC; Mounting Technology: Surface Mount; Code_JEDEC: MS-012-AA; ComponentLink1Description: Manufacturer URL; ComponentLink1URL: http://www.analog.com/en/index.html; ComponentLink2Description: Datasheet; ComponentLink2URL: http://www.analog.com/static/imported-files/data_sheets/REF01_02_03.pdf; ComponentLink3Description: Package Specification; ComponentLink3URL: http://www.analog.com/static/imported-files/packages/PKG_PDF/SOIC_Narrow%20(R)/R_8.pdf; ComponentLink4Description: URL Link1; ComponentLink4URL: Product URL:http://www.analog.com/en/special-linear-functions/voltage-references/ref02/products/product.html
footprint ADI-R-8_N (SOIC, 8-Leads, Body 4.9x3.9mm, Pitch 1.27mm, IPC Medium Density)
footprint ADI-R-8_L (SOIC, 8-Leads, Body 4.9x3.9mm, Pitch 1.27mm, IPC High Density)
footprint ADI-R-8_M (SOIC, 8-Leads, Body 4.9x3.9mm, Pitch 1.27mm, IPC Low Density)
part A pins: 2 VIN (power), 3 TEMP (out), 4 GND (power), 5 TRIM (in), 6 VOUT (power)
part B pins: 1 NC, 7 NC, 8 NC

## REF02EZ
designator U?
Precision Voltage Reference, 5 V Output, 7 to 36 V Supply, Industrial, 8-pin DIP (Q-8), Tube; Manufacturer: Analog Devices; PartNumber: REF02EZ; Max V Supply (V): 36; Min V Supply (V): 7; Vout: 5V; DatasheetVersion: Rev. K; PackageVersion: Aug-05; PackageReference: Q-8; PackageDescription: 8-Pin Ceramic Dual In-Line Package, Row spacing 7.62 mm, Pitch 2.54 mm; Supplier 1: Digi-Key; Supplier Part Number 1: REF02EZADI-ND; Supplier 2: Farnell; Supplier Part Number 2: 2243453; Supplier 3: Mouser; Supplier Part Number 3: 584-REF02EZ; Packing: Tube; Operating Temp Range: -40 to 85 degC; Mounting Technology: Through Hole; ComponentLink1Description: Manufacturer URL; ComponentLink1URL: http://www.analog.com/en/index.html; ComponentLink2Description: Datasheet; ComponentLink2URL: http://www.analog.com/static/imported-files/data_sheets/REF01_02_03.pdf; ComponentLink3Description: Package Specification; ComponentLink3URL: http://www.analog.com/static/imported-files/packages/3925655241313314758Q_8.pdf; ComponentLink4Description: URL Link1; ComponentLink4URL: Product URL:http://www.analog.com/en/special-linear-functions/voltage-references/ref02/products/product.html
footprint ADI-Q-8 (DIP, 8-Leads, Body 10.29x6.73mm, Pitch 2.54mm)
part A pins: 2 VIN (power), 3 TEMP (out), 4 GND (power), 5 TRIM (in), 6 VOUT (power)
part B pins: 1 NC, 7 NC, 8 NC

## REF02HPZ
designator U?
Precision Voltage Reference, 5 V Output, 7 to 36 V Supply, Industrial, 8-pin DIP (N-8), Tube; Manufacturer: Analog Devices; PartNumber: REF02HPZ; Max V Supply (V): 36; Min V Supply (V): 7; Vout: 5V; DatasheetVersion: Rev. K; PackageVersion: 070606-A, 07/2006; PackageReference: N-8; PackageDescription: 8-Pin Plastic Dual In-Line Package, Row spacing 7.62 mm, Pitch 2.54 mm; Supplier 1: Digi-Key; Supplier Part Number 1: REF02HPZ-ND; Supplier 2: Farnell; Supplier Part Number 2: 9605118; Supplier 3: Newark; Supplier Part Number 3: 59K9015; Supplier 4: Mouser; Supplier Part Number 4: 584-REF02HPZ; Packing: Tube; Operating Temp Range: -40 to 85 degC; Mounting Technology: Through Hole; Code_JEDEC: MS-001; ComponentLink1Description: Manufacturer URL; ComponentLink1URL: http://www.analog.com/en/index.html; ComponentLink2Description: Datasheet; ComponentLink2URL: http://www.analog.com/static/imported-files/data_sheets/REF01_02_03.pdf; ComponentLink3Description: Package Specification; ComponentLink3URL: http:/www.analog.com/static/imported-files/packages/PKG_PDF/PDIP(N)/N_8.pdf; ComponentLink4Description: URL Link1; ComponentLink4URL: Product URL:http://www.analog.com/en/special-linear-functions/voltage-references/ref02/products/product.html
footprint ADI-N-8 (DIP, 8-Leads, Body 9.59x6.6mm, Pitch 2.54mm)
part A pins: 2 VIN (power), 3 TEMP (out), 4 GND (power), 5 TRIM (in), 6 VOUT (power)
part B pins: 1 NC, 7 NC, 8 NC

## REF02HSZ
designator U?
Precision Voltage Reference, 5 V Output, 7 to 36 V Supply, Industrial, 8-pin SOIC (R-8), Tube; Manufacturer: Analog Devices; PartNumber: REF02HSZ; Max V Supply (V): 36; Min V Supply (V): 7; Vout: 5V; DatasheetVersion: Rev. K; PackageVersion: 060506-A, 06/2006; PackageReference: R-8; PackageDescription: 8-Pin Standard Small Outline Package, Body 4.9 x 3.9 mm, Pitch 1.27 mm; Supplier 1: Digi-Key; Supplier Part Number 1: REF02HSZ-ND; Supplier 2: Farnell; Supplier Part Number 2: 1389152; Supplier 3: Newark; Supplier Part Number 3: 59K9016; Supplier 4: Mouser; Supplier Part Number 4: 584-REF02HSZ; Packing: Tube; Operating Temp Range: -40 to 85 degC; Mounting Technology: Surface Mount; Code_JEDEC: MS-012-AA; ComponentLink1Description: Manufacturer URL; ComponentLink1URL: http://www.analog.com/en/index.html; ComponentLink2Description: Datasheet; ComponentLink2URL: http://www.analog.com/static/imported-files/data_sheets/REF01_02_03.pdf; ComponentLink3Description: Package Specification; ComponentLink3URL: http://www.analog.com/static/imported-files/packages/PKG_PDF/SOIC_Narrow%20(R)/R_8.pdf; ComponentLink4Description: URL Link1; ComponentLink4URL: Product URL:http://www.analog.com/en/special-linear-functions/voltage-references/ref02/products/product.html
footprint ADI-R-8_N (SOIC, 8-Leads, Body 4.9x3.9mm, Pitch 1.27mm, IPC Medium Density)
footprint ADI-R-8_L (SOIC, 8-Leads, Body 4.9x3.9mm, Pitch 1.27mm, IPC High Density)
footprint ADI-R-8_M (SOIC, 8-Leads, Body 4.9x3.9mm, Pitch 1.27mm, IPC Low Density)
part A pins: 2 VIN (power), 3 TEMP (out), 4 GND (power), 5 TRIM (in), 6 VOUT (power)
part B pins: 1 NC, 7 NC, 8 NC

## REF02HZ
designator U?
Precision Voltage Reference, 5 V Output, 7 to 36 V Supply, Industrial, 8-pin DIP (Q-8), Tube; Manufacturer: Analog Devices; PartNumber: REF02HZ; Max V Supply (V): 36; Min V Supply (V): 7; Vout: 5V; DatasheetVersion: Rev. K; PackageVersion: Aug-05; PackageReference: Q-8; PackageDescription: 8-Pin Ceramic Dual In-Line Package, Row spacing 7.62 mm, Pitch 2.54 mm; Supplier 1: Digi-Key; Supplier Part Number 1: REF02HZ-ND; Supplier 2: Mouser; Supplier Part Number 2: 584-REF02HZ; Packing: Tube; Operating Temp Range: -40 to 85 degC; Mounting Technology: Through Hole; ComponentLink1Description: Manufacturer URL; ComponentLink1URL: http://www.analog.com/en/index.html; ComponentLink2Description: Datasheet; ComponentLink2URL: http://www.analog.com/static/imported-files/data_sheets/REF01_02_03.pdf; ComponentLink3Description: Package Specification; ComponentLink3URL: http://www.analog.com/static/imported-files/packages/3925655241313314758Q_8.pdf; ComponentLink4Description: URL Link1; ComponentLink4URL: Product URL:http://www.analog.com/en/special-linear-functions/voltage-references/ref02/products/product.html
footprint ADI-Q-8 (DIP, 8-Leads, Body 10.29x6.73mm, Pitch 2.54mm)
part A pins: 2 VIN (power), 3 TEMP (out), 4 GND (power), 5 TRIM (in), 6 VOUT (power)
part B pins: 1 NC, 7 NC, 8 NC

## REF02RC/883C
designator U?
Precision Voltage Reference, 5 V Output, 7 to 36 V Supply, Military, 20-pin LCC (E-20-1), Tube; Manufacturer: Analog Devices; PartNumber: REF02RC/883C; Max V Supply (V): 36; Min V Supply (V): 7; Vout: 5V; DatasheetVersion: Rev. K; PackageVersion: 022106-A, 02/2006; PackageReference: E-20-1; PackageDescription: 20-Terminal Ceramic Leadless Chip Carrier, Body 8.89 x 8.89 mm, Pitch 1.27 mm; Supplier 1: Mouser; Supplier Part Number 1: 584-REF02RC883C; Packing: Tube; Operating Temp Range: -55 to 125 degC; Mounting Technology: Surface Mount; ComponentLink1Description: Manufacturer URL; ComponentLink1URL: http://www.analog.com/en/index.html; ComponentLink2Description: Datasheet; ComponentLink2URL: http://www.analog.com/static/imported-files/data_sheets/REF01_02_03.pdf; ComponentLink3Description: Package Specification; ComponentLink3URL: http://www.analog.com/static/imported-files/packages/PKG_PDF/LCC(E)/E_20_1.pdf; ComponentLink4Description: URL Link1; ComponentLink4URL: Product URL:http://www.analog.com/en/special-linear-functions/voltage-references/ref02/products/product.html
footprint ADI-E-20-1_N (LCC, 20-Leads, Body 8.9x8.9mm, Pitch 1.27mm, IPC Medium Density)
footprint ADI-E-20-1_L (LCC, 20-Leads, Body 8.9x8.9mm, Pitch 1.27mm, IPC High Density)
footprint ADI-E-20-1_M (LCC, 20-Leads, Body 8.9x8.9mm, Pitch 1.27mm, IPC Low Density)
part A pins: 5 VIN (power) "Supply Voltage Input.", 7 TEMP (out) "Temperature (Band Gap) Output. Refer to the Temperature Monitoring section.", 10 GND (power) "Ground Connection.", 12 TRIM (in) "Output Voltage Trim. Refer to the Output Adjustment section.", 15 VOUT (power) "Reference Voltage Output."
part B pins: 1 NC "No Internal Connection. Leave floating or tied to ground in actual application.", 2 NC "No Internal Connection. Leave floating or tied to ground in actual application.", 3 NC "No Internal Connection. Leave floating or tied to ground in actual application.", 4 NC "No Internal Connection. Leave floating or tied to ground in actual application.", 6 NC "No Internal Connection. Leave floating or tied to ground in actual application.", 8 NC "No Internal Connection. Leave floating or tied to ground in actual application.", 9 NC "No Internal Connection. Leave floating or tied to ground in actual application.", 11 NC "No Internal Connection. Leave floating or tied to ground in actual application.", 13 NC "No Internal Connection. Leave floating or tied to ground in actual application.", 14 NC "No Internal Connection. Leave floating or tied to ground in actual application.", 16 NC "No Internal Connection. Leave floating or tied to ground in actual application.", 17 NC "No Internal Connection. Leave floating or tied to ground in actual application.", 18 NC "No Internal Connection. Leave floating or tied to ground in actual application.", 19 NC "No Internal Connection. Leave floating or tied to ground in actual application.", 20 NC "No Internal Connection. Leave floating or tied to ground in actual application."

## REF02Z
designator U?
Precision Voltage Reference, 5 V Output, 7 to 36 V Supply, Military, 8-pin DIP (Q-8), Tube; Manufacturer: Analog Devices; PartNumber: REF02Z; Max V Supply (V): 36; Min V Supply (V): 7; Vout: 5V; DatasheetVersion: Rev. K; PackageVersion: Aug-05; PackageReference: Q-8; PackageDescription: 8-Pin Ceramic Dual In-Line Package, Row spacing 7.62 mm, Pitch 2.54 mm; Supplier 1: Digi-Key; Supplier Part Number 1: REF02Z-ND; Supplier 2: Mouser; Supplier Part Number 2: 584-REF02Z; Packing: Tube; Operating Temp Range: -55 to 125 degC; Mounting Technology: Through Hole; ComponentLink1Description: Manufacturer URL; ComponentLink1URL: http://www.analog.com/en/index.html; ComponentLink2Description: Datasheet; ComponentLink2URL: http://www.analog.com/static/imported-files/data_sheets/REF01_02_03.pdf; ComponentLink3Description: Package Specification; ComponentLink3URL: http://www.analog.com/static/imported-files/packages/3925655241313314758Q_8.pdf; ComponentLink4Description: URL Link1; ComponentLink4URL: Product URL:http://www.analog.com/en/special-linear-functions/voltage-references/ref02/products/product.html
footprint ADI-Q-8 (DIP, 8-Leads, Body 10.29x6.73mm, Pitch 2.54mm)
part A pins: 2 VIN (power), 3 TEMP (out), 4 GND (power), 5 TRIM (in), 6 VOUT (power)
part B pins: 1 NC, 7 NC, 8 NC

## REF03GPZ
designator U?
Precision Voltage Reference, 2.5 V Output, 4.5 to 33 V Supply, Industrial, 8-pin DIP (N-8), Tube; Manufacturer: Analog Devices; PartNumber: REF03GPZ; Max V Supply (V): 36; Min V Supply (V): 4.5; Ref Out TC (ppm/C): 10; Vout: 2.5V; DatasheetVersion: Rev. K; PackageVersion: 070606-A, 07/2006; PackageReference: N-8; PackageDescription: 8-Pin Plastic Dual In-Line Package, Row spacing 7.62 mm, Pitch 2.54 mm; Supplier 1: Digi-Key; Supplier Part Number 1: REF03GPZ-ND; Supplier 2: Farnell; Supplier Part Number 2: 1079388; Supplier 3: Newark; Supplier Part Number 3: 13M2701; Supplier 4: Mouser; Supplier Part Number 4: 584-REF03GPZ; Packing: Tube; Operating Temp Range: -40 to 85 degC; Mounting Technology: Through Hole; Code_JEDEC: MS-001; ComponentLink1Description: Manufacturer URL; ComponentLink1URL: http://www.analog.com/en/index.html; ComponentLink2Description: Datasheet; ComponentLink2URL: http://www.analog.com/static/imported-files/data_sheets/REF01_02_03.pdf; ComponentLink3Description: Package Specification; ComponentLink3URL: http:/www.analog.com/static/imported-files/packages/PKG_PDF/PDIP(N)/N_8.pdf; ComponentLink4Description: URL Link1; ComponentLink4URL: Product URL:http://www.analog.com/en/special-linear-functions/voltage-references/ref03/products/product.html
footprint ADI-N-8 (DIP, 8-Leads, Body 9.59x6.6mm, Pitch 2.54mm)
part A pins: 2 VIN (power), 3 TEMP (out), 4 GND (power), 5 TRIM (in), 6 VOUT (power)
part B pins: 1 NC, 7 NC, 8 NC

## REF03GSZ
designator U?
Precision Voltage Reference, 2.5 V Output, 4.5 to 33 V Supply, Industrial, 8-pin SOIC (R-8), Tube; Manufacturer: Analog Devices; PartNumber: REF03GSZ; Max V Supply (V): 36; Min V Supply (V): 4.5; Ref Out TC (ppm/C): 10; Vout: 2.5V; DatasheetVersion: Rev. K; PackageVersion: 060506-A, 06/2006; PackageReference: R-8; PackageDescription: 8-Pin Standard Small Outline Package, Body 4.9 x 3.9 mm, Pitch 1.27 mm; Supplier 1: Digi-Key; Supplier Part Number 1: REF03GSZ-ND; Supplier 2: Farnell; Supplier Part Number 2: 9425853; Supplier 3: Newark; Supplier Part Number 3: 31M5887; Supplier 4: Newark; Supplier Part Number 4: 59K9018; Supplier 5: Mouser; Supplier Part Number 5: 584-REF03GSZ; Packing: Tube; Operating Temp Range: -40 to 85 degC; Mounting Technology: Surface Mount; Code_JEDEC: MS-012-AA; ComponentLink1Description: Manufacturer URL; ComponentLink1URL: http://www.analog.com/en/index.html; ComponentLink2Description: Datasheet; ComponentLink2URL: http://www.analog.com/static/imported-files/data_sheets/REF01_02_03.pdf; ComponentLink3Description: Package Specification; ComponentLink3URL: http://www.analog.com/static/imported-files/packages/PKG_PDF/SOIC_Narrow%20(R)/R_8.pdf; ComponentLink4Description: URL Link1; ComponentLink4URL: Product URL:http://www.analog.com/en/special-linear-functions/voltage-references/ref03/products/product.html
footprint ADI-R-8_N (SOIC, 8-Leads, Body 4.9x3.9mm, Pitch 1.27mm, IPC Medium Density)
footprint ADI-R-8_L (SOIC, 8-Leads, Body 4.9x3.9mm, Pitch 1.27mm, IPC High Density)
footprint ADI-R-8_M (SOIC, 8-Leads, Body 4.9x3.9mm, Pitch 1.27mm, IPC Low Density)
part A pins: 2 VIN (power), 3 TEMP (out), 4 GND (power), 5 TRIM (in), 6 VOUT (power)
part B pins: 1 NC, 7 NC, 8 NC

## REF03GSZ-REEL7
designator U?
Precision Voltage Reference, 2.5 V Output, 4.5 to 33 V Supply, Industrial, 8-pin SOIC (R-8), Reel; Manufacturer: Analog Devices; PartNumber: REF03GSZ-REEL7; Max V Supply (V): 36; Min V Supply (V): 4.5; Ref Out TC (ppm/C): 10; Vout: 2.5V; DatasheetVersion: Rev. K; PackageVersion: 060506-A, 06/2006; PackageReference: R-8; PackageDescription: 8-Pin Standard Small Outline Package, Body 4.9 x 3.9 mm, Pitch 1.27 mm; Supplier 1: Digi-Key; Supplier Part Number 1: REF03GSZ-REEL7-ND; Supplier 2: Newark; Supplier Part Number 2: 68H9540; Supplier 3: Mouser; Supplier Part Number 3: 584-REF03GSZ-R7; Packing: Reel; Operating Temp Range: -40 to 85 degC; Mounting Technology: Surface Mount; Code_JEDEC: MS-012-AA; ComponentLink1Description: Manufacturer URL; ComponentLink1URL: http://www.analog.com/en/index.html; ComponentLink2Description: Datasheet; ComponentLink2URL: http://www.analog.com/static/imported-files/data_sheets/REF01_02_03.pdf; ComponentLink3Description: Package Specification; ComponentLink3URL: http://www.analog.com/static/imported-files/packages/PKG_PDF/SOIC_Narrow%20(R)/R_8.pdf; ComponentLink4Description: URL Link1; ComponentLink4URL: Product URL:http://www.analog.com/en/special-linear-functions/voltage-references/ref03/products/product.html
footprint ADI-R-8_N (SOIC, 8-Leads, Body 4.9x3.9mm, Pitch 1.27mm, IPC Medium Density)
footprint ADI-R-8_L (SOIC, 8-Leads, Body 4.9x3.9mm, Pitch 1.27mm, IPC High Density)
footprint ADI-R-8_M (SOIC, 8-Leads, Body 4.9x3.9mm, Pitch 1.27mm, IPC Low Density)
part A pins: 2 VIN (power), 3 TEMP (out), 4 GND (power), 5 TRIM (in), 6 VOUT (power)
part B pins: 1 NC, 7 NC, 8 NC